# EAGLE library part MIC5323 (library ICs)
Ultra-Low Dropout LDO Regulator 電圧 - 入力（最大）：5.5V 電圧 - 出力（最小/固定）：3.3V 電流 - 出力：500mA 動作温度：-40°C～125°C
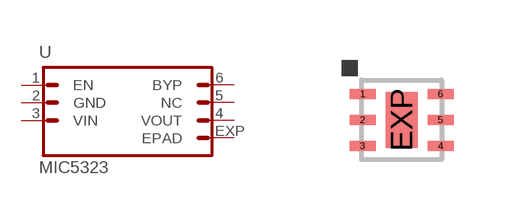
[diagram p2: symbol with the pads of 6-VDFN(2X2); footprint 6-VDFN(2X2)]

Designator prefix U

## MIC5323-3.3YMT-TR  [6-VDFN(2X2)]
1  EN
2  GND  pas
3  VIN  pas
4  VOUT  pas
5  NC  pas
6  BYP  pas
EXP  EPAD  pas

## Footprint 6-VDFN(2X2) (pad centres in mm)
6-Pin 2mm x 2mm Thin MLF(TM) 2 x 2 mm Body (VDFN)
smd 0.65 x 0.25: 1 -0.975,0.65; 2 -0.975,0; 3 -0.975,-0.65; 4 0.975,-0.65; 5 0.975,0; 6 0.975,0.65
smd 0.8 x 1.4: EXP 0,0